# Altium integrated library spoolbot_library.IntLib: 9 symbols
Pins are listed as number, name and electrical type; pins without a type are passive.

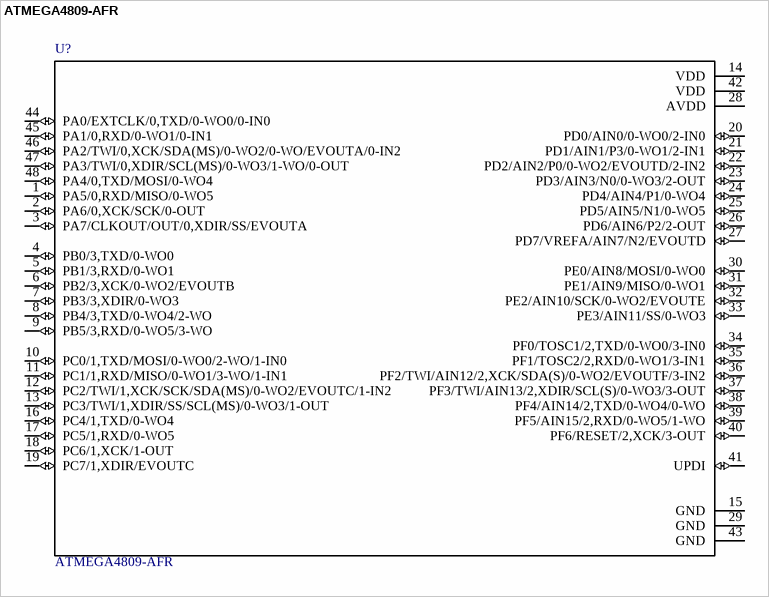
[diagram p0: symbol ATMEGA4809-AFR]

## ATMEGA4809-AFR
designator U?
20MHz 48KB TQFP48 Ind 125C Green T&R; MF: Microchip; Package: TQFP-48 Microchip; Price: None; Availability: Unavailable; MP: ATMEGA4809-AFR; SnapEDA_Link: https://www.snapeda.com/parts/ATMEGA4809-AFR/Microchip/view-part/?ref=snap; Value: *
footprint *QFP50P900X900X120-48N
pins: 1 PA5/0,RXD/MISO/0-WO5 (io), 2 PA6/0,XCK/SCK/0-OUT (io), 3 PA7/CLKOUT/OUT/0,XDIR/SS/EVOUTA (io), 4 PB0/3,TXD/0-WO0 (io), 5 PB1/3,RXD/0-WO1 (io), 6 PB2/3,XCK/0-WO2/EVOUTB (io), 7 PB3/3,XDIR/0-WO3 (io), 8 PB4/3,TXD/0-WO4/2-WO (io), 9 PB5/3,RXD/0-WO5/3-WO (io), 10 PC0/1,TXD/MOSI/0-WO0/2-WO/1-IN0 (io), 11 PC1/1,RXD/MISO/0-WO1/3-WO/1-IN1 (io), 12 PC2/TWI/1,XCK/SCK/SDA(MS)/0-WO2/EVOUTC/1-IN2 (io), 13 PC3/TWI/1,XDIR/SS/SCL(MS)/0-WO3/1-OUT (io), 14 VDD (power), 15 GND (power), 16 PC4/1,TXD/0-WO4 (io), 17 PC5/1,RXD/0-WO5 (io), 18 PC6/1,XCK/1-OUT (io), 19 PC7/1,XDIR/EVOUTC (io), 20 PD0/AIN0/0-WO0/2-IN0 (io), 21 PD1/AIN1/P3/0-WO1/2-IN1 (io), 22 PD2/AIN2/P0/0-WO2/EVOUTD/2-IN2 (io), 23 PD3/AIN3/N0/0-WO3/2-OUT (io), 24 PD4/AIN4/P1/0-WO4 (io), 25 PD5/AIN5/N1/0-WO5 (io), 26 PD6/AIN6/P2/2-OUT (io), 27 PD7/VREFA/AIN7/N2/EVOUTD (io), 28 AVDD (power), 29 GND (power), 30 PE0/AIN8/MOSI/0-WO0 (io), 31 PE1/AIN9/MISO/0-WO1 (io), 32 PE2/AIN10/SCK/0-WO2/EVOUTE (io), 33 PE3/AIN11/SS/0-WO3 (io), 34 PF0/TOSC1/2,TXD/0-WO0/3-IN0 (io), 35 PF1/TOSC2/2,RXD/0-WO1/3-IN1 (io), 36 PF2/TWI/AIN12/2,XCK/SDA(S)/0-WO2/EVOUTF/3-IN2 (io), 37 PF3/TWI/AIN13/2,XDIR/SCL(S)/0-WO3/3-OUT (io), 38 PF4/AIN14/2,TXD/0-WO4/0-WO (io), 39 PF5/AIN15/2,RXD/0-WO5/1-WO (io), 40 PF6/RESET/2,XCK/3-OUT (io), 41 UPDI (io), 42 VDD (power), 43 GND (power), 44 PA0/EXTCLK/0,TXD/0-WO0/0-IN0 (io), 45 PA1/0,RXD/0-WO1/0-IN1 (io), 46 PA2/TWI/0,XCK/SDA(MS)/0-WO2/0-WO/EVOUTA/0-IN2 (io), 47 PA3/TWI/0,XDIR/SCL(MS)/0-WO3/1-WO/0-OUT (io), 48 PA4/0,TXD/MOSI/0-WO4 (io)


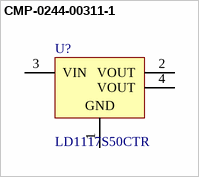
[diagram p1: symbol CMP-0244-00311-1]

## CMP-0244-00311-1
designator U?, comment LD1117S50CTR
Fixed Low Drop Positive Voltage Regulator, 5V, 4-Pin SOT-223, Tape and Reel; PackageReference: SOT-223; PackageVersion: 2010; ComponentLink2URL: http://www.st.com/internet/com/TECHNICAL_RESOURCES/TECHNICAL_LITERATURE/DATASHEET/CD00000544.pdf; ComponentLink1URL: http://www.st.com; ComponentLink2Description: Datasheet; DatasheetVersion: 1/11/2011; ComponentLink1Description: Manufacturer URL; PackageDescription: 4-Pin SOT-223 Package, 6.5 x 3.5 mm Body, 2.3 mm Pitch, 7 mm Lead Span
footprint SOT-223_L (SOT223, 4-Leads, Body 6.5x3.5mm, Pitch 2.3mm, Lead Span 7mm, IPC High Density)
footprint SOT-223_N (SOT223, 4-Leads, Body 6.5x3.5mm, Pitch 2.3mm, Lead Span 7mm, IPC Medium Density)
footprint SOT-223_M (SOT223, 4-Leads, Body 6.5x3.5mm, Pitch 2.3mm, Lead Span 7mm, IPC Low Density)
pins: 1 GND (power), 2 VOUT (power), 3 VIN (power), 4 VOUT (power)


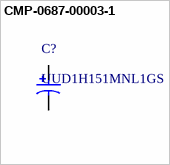
[diagram p2: symbol CMP-0687-00003-1]

## CMP-0687-00003-1
designator C?, comment UUD1H151MNL1GS
Aluminum Electrolytic Capacitor, UD Series, Low Impedance, 150 uF, 50 V, + / - 20%, -55 to 105 degC, Chip Type, 10 x 10 mm D x L, Pb-Free, Reel; Manufacturer: Nichicon; Rated Ripple Current (at 100kHz): 670 mA; Impedance: 0.18 Ohm; Packing: Dia382mm Reel; Rated Capacitance: 150 uF; Tolerance Rated Capacitance: -20 to 20%; Rated Voltage: 50 V; Endurance Time: 5000 h; ComponentLink3URL: http://products.nichicon.co.jp/en/pdf/XJA043/e-ud.pdf; ComponentLink1URL: http://www.nichicon.co.jp/; ComponentLink2Description: Datasheet; Diameter: 10 mm; ComponentLink3Description: Package Specification; PartNumber: UUD1H151MNL1GS; PackageDescription: 2-Pin Surface Mount Device, Diameter 10 mm, Height 10 mm, Pitch 8 mm; ComponentLink1Description: Manufacturer URL; DatasheetVersion: 08/2012; Length: 10 mm; PackageReference: CAPAE-D10H10; RoHS: TRUE; Mounting Technology: Surface Mount; ComponentLink2URL: http://products.nichicon.co.jp/en/pdf/XJA043/e-ud.pdf
footprint NIC-CAPA2-10X10_V (Aluminum Electrolytic Capacitor, Diameter 10mm, Height 10.8mm, Pitch 8mm)
pins: 1, 2


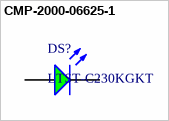
[diagram p3: symbol CMP-2000-06625-1]

## CMP-2000-06625-1
designator DS?, comment LTST-C230KGKT
LED Green, 75 mW, 30 mA, -30 to 85 degC, 2-Pin SMD, RoHS, Tape and Reel; Manufacturer: Lite-On; Product Length (mm): 3.2mm; Type: Uni-Color; Peak Wavelength: 574nm; Shape Type: Rectangular; DELETED: Compliant; Lum Intensity: 35mcd; Forward Voltage: 2.4V; High Brightness: Yes; Rad Hardened: No; Power Dissipation: 75W; Forward Current: 30mA; Emitting Color: YellowGreen; Main Category: ChipLED; Product Height (mm): 1.1mm; Product Depth (mm): 1.6mm; Number of  Elements: 1; Viewing Angle: 130deg; Chip Material: AlGaInP; Dominant Wave Length: 571nm; Test Current (It): 20mA; Reverse Voltage: 5V; Mounting: SurfaceMount; Datasheet URL: http://optoelectronics.liteon.com/upload/download/DS22-2000-256/S_110_LTST-C230KGKT.pdf; Luminous Intensity: 35mcd; Pin Count: 2; Mounting Technology: SurfaceMount; Operating Temperature Classification: Industrial; Operating Temp Range: -55Cto85C; Package Type: ChipLed; Manufacturer URL: http://www.us.liteon.com/; Package Description: 2-Pin Surface Mount Device, Body 3.2 x 1.6 mm; Package Reference: C230KGKT; Datasheet Version: Rev. G, 12/2014; Lens Dimensions: 1.5X1.6X0.82mm; Packaging: TapeandReel
footprint LTST-C230KGKT_V (SMD, 2-Leads, Body 3.2x1.6mm)
pins: 1 A, 2 K


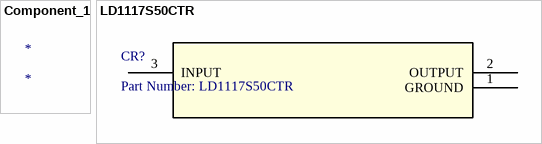
[diagram p4: symbols Component_1 to LD1117S50CTR]

## Component_1
designator *

## LD1117S50CTR
designator CR?, comment Part Number: LD1117S50CTR
No Description Available; Vendor: STMicroelectronics; Built_By: EMA_UL_Team; Type: DEV; Manufacturer_Part_Number: LD1117S50CTR; Copyright: Copyright (C) 2018 Accelerated Designs. All rights reserved; RefDes: RefDes; Value: Value
footprint SOT-223
pins: 1 GROUND, 2 OUTPUT, 3 INPUT


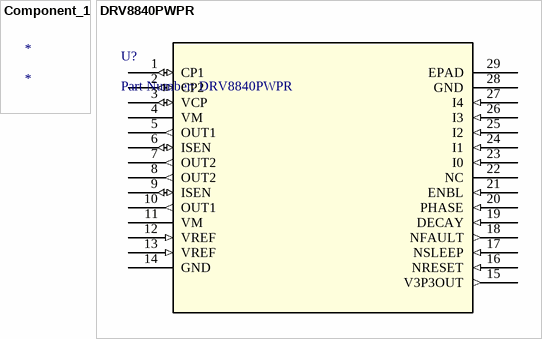
[diagram p5: symbols Component_1 to DRV8840PWPR]

## Component_1
designator *

## DRV8840PWPR
designator U?, comment Part Number: DRV8840PWPR
No Description Available; Manufacturer: Texas Instruments; Built_By: EMA_UL_Team; Vendor: Texas Instruments; Manufacturer_Part_Number: DRV8840PWPR; Copyright: Copyright (C) 2018 Accelerated Designs. All rights reserved; RefDes: RefDes; Type: DEV; Value: Value
footprint PWP28_5P18X3P1
pins: 1 CP1 (io), 2 CP2 (io), 3 VCP (io), 4 VM (power), 5 OUT1 (out), 6 ISEN (io), 7 OUT2 (out), 8 OUT2 (out), 9 ISEN (io), 10 OUT1 (out), 11 VM (power), 12 VREF (in), 13 VREF (in), 14 GND (power), 15 V3P3OUT (out), 16 NRESET (in), 17 NSLEEP (in), 18 NFAULT (out), 19 DECAY (in), 20 PHASE (in), 21 ENBL (in), 22 NC, 23 I0 (in), 24 I1 (in), 25 I2 (in), 26 I3 (in), 27 I4 (in), 28 GND (power), 29 EPAD


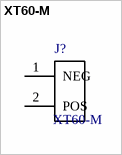
[diagram p6: symbol XT60-M]

## XT60-M
designator J?
MF: AMASS; Availability: Unavailable; Package: Package Analog Devices; SnapEDA_Link: https://www.snapeda.com/parts/XT60-M/AMASS/view-part/?ref=snap; MP: XT60-M; Price: None; Value: *
footprint *AMASS_XT60-M
pins: 1 NEG, 2 POS